# Altium schematic symbol library S5B-PH-K-S(LF)(SN).SchLib: 1 symbol
Pins are listed as number, name and electrical type; pins without a type are passive.

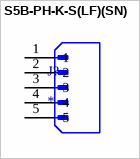
[diagram p0: symbol S5B-PH-K-S(LF)(SN)]

## S5B-PH-K-S(LF)(SN)
designator J?
Connector Header Through Hole, Right Angle 5 position 0.079 (2.00mm); MF: JST Sales America Inc.; MP: S5B-PH-K-S(LF)(SN); Package: NON STANDARD-5 J.S.T.; Price: None; Check_prices: https://www.snapeda.com/parts/S5B-PH-K-S(LF)(SN)/JST+Sales+America+Inc./view-part/?ref=eda; Value: *; SnapEDA_Link: https://www.snapeda.com/parts/S5B-PH-K-S(LF)(SN)/JST+Sales+America+Inc./view-part/?ref=snap; Availability: In Stock; Purchase-URL: https://pricing.snapeda.com/search/part/S5B-PH-K-S(LF)(SN)/?ref=eda
pins: 1, 2, 3, 4, 5